# EAGLE library part E22-400M30S (library NEON-BLADE-2024)
EBYTE E22400M30S radio module Datasheet and info: http://www.ebyte.com/en/product-view-news.aspx?id=454
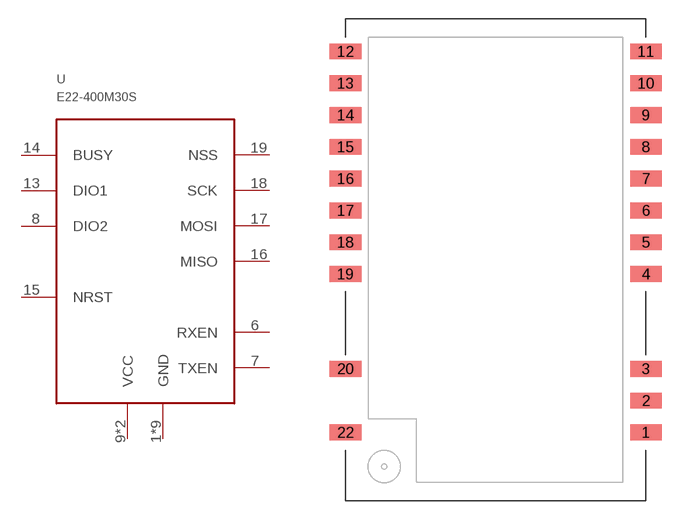
[diagram p26: symbol with the pads of E22-400M30S; footprint E22-400M30S]

Designator prefix -

## E22-400M30S  [E22-400M30S]
1  GND  sup
2  GND  sup
3  GND  sup
4  GND  sup
5  GND  sup
6  RXEN  in
7  TXEN  in
8  DIO2
9  VCC  pwr
10  VCC  pwr
11  GND  sup
12  GND  sup
13  DIO1
14  BUSY  out
15  NRST  in
16  MISO  out
17  MOSI  in
18  SCK  in
19  NSS  in
20  GND  sup
22  GND  sup

## Footprint E22-400M30S (pad centres in mm)
EBYTE E22400M30S radio module Datasheet and info: http://www.ebyte.com/en/product-view-news.aspx?id=454
smd 2.54 x 1.27: 1 12,-13.79; 2 12,-11.25; 3 12,-8.71; 4 12,-1.14; 5 12,1.4; 6 12,3.94; 7 12,6.48; 8 12,9.02; 9 12,11.56; 10 12,14.1; 11 12,16.64; 12 -12,16.64; 13 -12,14.1; 14 -12,11.56; 15 -12,9.02; 16 -12,6.48; 17 -12,3.94; 18 -12,1.4; 19 -12,-1.14; 20 -12,-8.71; 22 -12,-13.79